# EAGLE library part LM2679T-5.0/NOPB (library LM2679T-5.0)
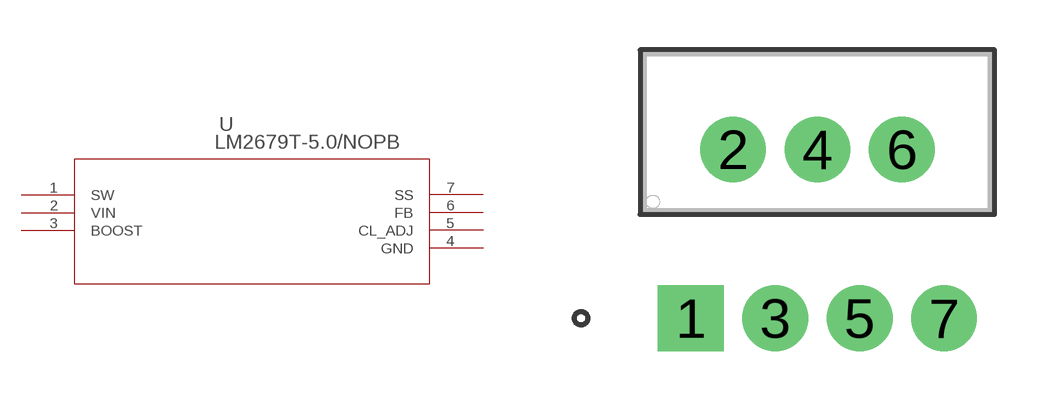
[diagram p0: symbol with the pads of TA07B; footprint TA07B]

Designator prefix -

## LM2679T-5.0/NOPB (COPYRIGHT: Copyright C 2015 Accelerated Designs. All rights reserved; MANUFACTURER_PART_NUMBER: LM2679T50; VENDOR: National Semiconductor)  [TA07B]
1  SW  out
2  VIN  in
3  BOOST  pas
4  GND  pas
5  CL_ADJ  pas
6  FB  pas
7  SS  pas

## Footprint TA07B (pad centres in mm)
drill 1.321 pad 1.829 square: 1 -7.62,-11.201
drill 1.321 pad 1.829: 2 -6.35,-6.121; 3 -5.08,-11.201; 4 -3.81,-6.121; 5 -2.54,-11.201; 6 -1.27,-6.121; 7 0,-11.201